# Altium footprint library ДИОДЫ-MM.PcbLib: 53 footprints (part 4 of 4)
Each footprint in its own frame and in the unit in brackets; x right, y up, seen from the top. Pads: shape width x height; smd on the part's side, far side on the other; paste and mask are expansions set on the pad; w line width, h text height; cw(c..) or ccw(c..) is an arc to the next point about the centre after c.
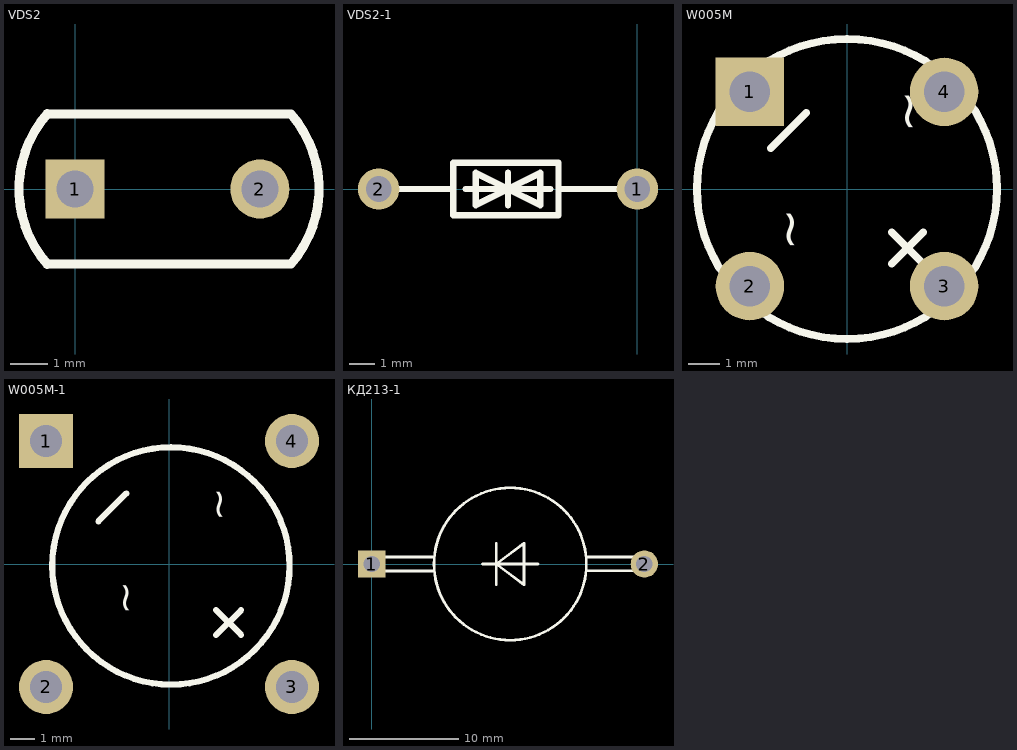
[diagram p3: the footprints below, top view; thin cyan lines are the x and y axes]

## VDS2 [mm]
pads (2):
  rect 1.6x1.6 hole 1: 1(0,0)
  round 1.6 hole 1: 2(5,0)
Top Overlay:
  lines w0.25: -0.762,-2.032 5.842,-2.032 ccw(c3.505,0) 5.842,2.032 -0.762,2.032 ; -0.759,-2.036 cw(c1.575,0) -0.759,2.036

## VDS2-1 [mm]
pads (2):
  round 1.6 hole 1: 1(0,0) 2(-10,0)
Top Overlay:
  lines w0.25: -9.51,0 -7.112,0 ; -6.625,0 -3.375,0 ; -5,-0.625 -5,0.625 ; -3.048,0 -0.44,0 ; -5,0 -6.25,-0.625 -6.25,0.625 -5,0 ; -5,0 -3.75,-0.625 -3.75,0.625 -5,0 ; -7.112,-1.016 -3.048,-1.016 -3.048,1.016 -7.112,1.016 -7.112,-1.016

## W005M [mm]
pads (4):
  rect 2.2x2.2 hole 1.3: 1(-3.125,3.125)
  round 2.2 hole 1.3 unplated: 2(-3.125,-3.125) 3(3.125,-3.125) 4(3.125,3.125)
Top Overlay:
  circle w0.25: c0,0 r4.826
  lines w0.25: -2.453,1.31 -1.31,2.453 ; 1.437,-2.407 2.453,-1.391 ; 1.437,-1.391 2.453,-2.407
  text "~" at 2.5,1.818 h1.19
  text "~" at -1.31,-1.992 h1.19

## W005M-1 [mm]
pads (4):
  rect 2.2x2.2 hole 1.3: 1(-5,5)
  round 2.2 hole 1.3: 2(-5,-5) 3(5,-5) 4(5,5)
Top Overlay:
  circle w0.25: c0.08,-0.08 r4.826
  lines w0.25: -2.873,1.73 -1.73,2.873 ; 1.917,-2.887 2.933,-1.871 ; 1.917,-1.871 2.933,-2.887
  text "~" at 2.58,1.738 h1.19
  text "~" at -1.23,-2.072 h1.19

## КД213-1 [mm]
pads (2):
  rect 2.5x2.5 hole 1.5: 1(0,0)
  round 2.5 hole 1.5: 2(25,0)
Top Overlay:
  circle w0.25: c12.7,0 r6.985
  lines w0.25: 5.715,-0.635 0,-0.635 0,0 0,0.635 5.715,0.635 ; 10.16,0 15.24,0 ; 11.43,-1.905 11.43,1.905 ; 19.685,-0.635 24.98,-0.63 ; 19.685,0.635 24.99,0.64 ; 25,-0.635 25,0.635 ; 11.43,0 13.97,-1.905 13.97,1.905 11.43,0